# EAGLE library part VP101-5BA (library Amiga)
VIDEO_DAC for A1200 A4000(t)
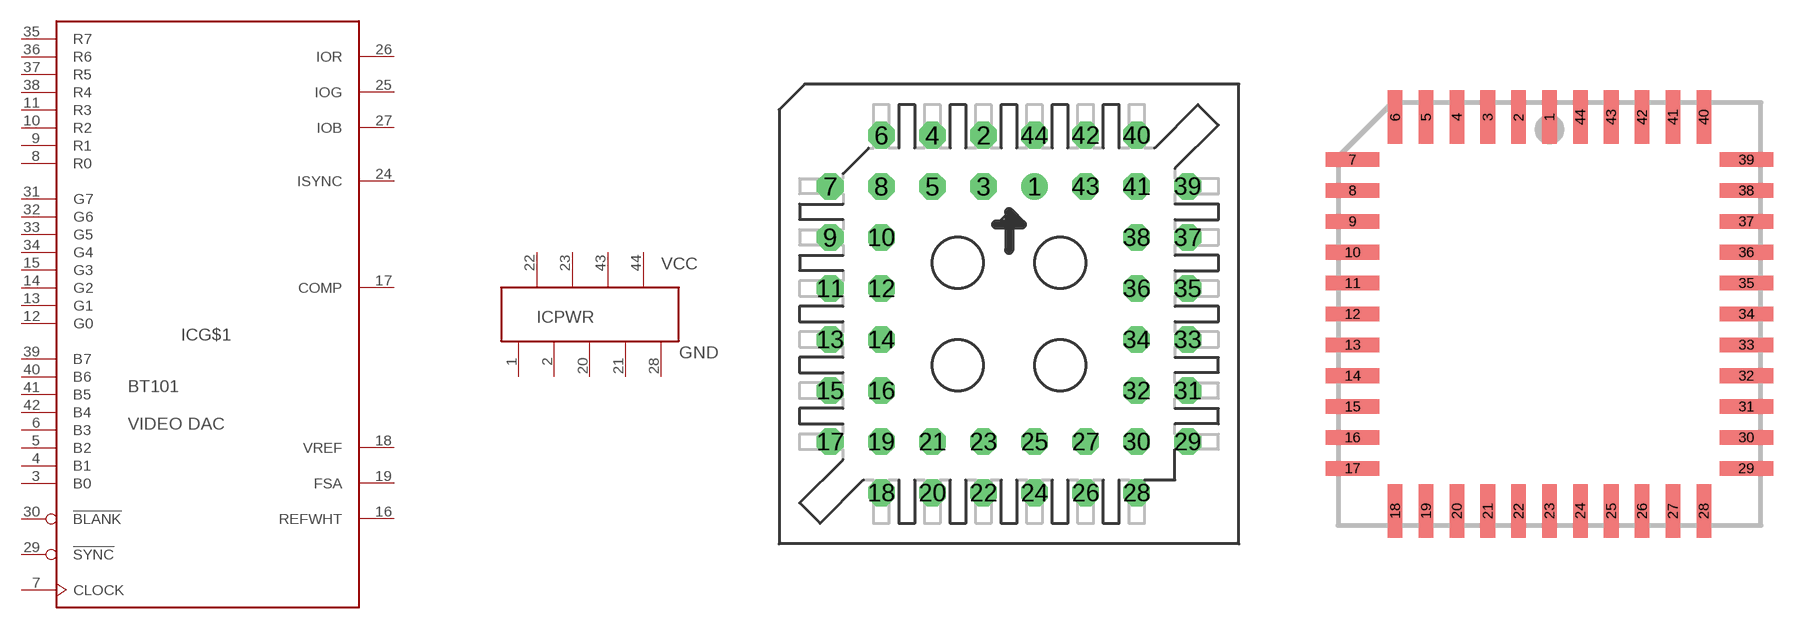
[diagram p24: symbol with the pads of PLCC44_T; footprints PLCC44_T, PLCC44_S]

Designator prefix IC; gates G$1=BT101 PWR=4VCC-5GND

## VP101-5BA-HP44  [PLCC44_T]
1  PWR:GND  pwr
2  PWR:GND  pwr
3  G$1:B0  in
4  G$1:B1  in
5  G$1:B2  in
6  G$1:B3  in
7  G$1:CLOCK  in
8  G$1:R0  in
9  G$1:R1  in
10  G$1:R2  in
11  G$1:R3  in
12  G$1:G0  in
13  G$1:G1  in
14  G$1:G2  in
15  G$1:G3  in
16  G$1:REFWHT  in
17  G$1:COMP  out
18  G$1:VREF  pwr
19  G$1:FSA  in
20  PWR:GND  pwr
21  PWR:GND  pwr
22  PWR:VCC  pwr
23  PWR:VCC  pwr
24  G$1:ISYNC  in
25  G$1:IOG  out
26  G$1:IOR  out
27  G$1:IOB  out
28  PWR:GND  pwr
29  G$1:!SYNC  in
30  G$1:!BLANK  in
31  G$1:G7  in
32  G$1:G6  in
33  G$1:G5  in
34  G$1:G4  in
35  G$1:R7  in
36  G$1:R6  in
37  G$1:R5  in
38  G$1:R4  in
39  G$1:B7  in
40  G$1:B6  in
41  G$1:B5  in
42  G$1:B4  in
43  PWR:VCC  pwr
44  PWR:VCC  pwr

## VP101-5BA  [PLCC44_S]
Pads as for PLCC44_T

## Footprint PLCC44_T (pad centres in mm)
drill 0.813: 1 1.27,6.35
drill 0.813 octagon: 2 -1.27,8.89; 3 -1.27,6.35; 4 -3.81,8.89; 5 -3.81,6.35; 6 -6.35,8.89; 7 -8.89,6.35; 8 -6.35,6.35; 9 -8.89,3.81; 10 -6.35,3.81; 11 -8.89,1.27; 12 -6.35,1.27; 13 -8.89,-1.27; 14 -6.35,-1.27; 15 -8.89,-3.81; 16 -6.35,-3.81; 17 -8.89,-6.35; 18 -6.35,-8.89; 19 -6.35,-6.35; 20 -3.81,-8.89; 21 -3.81,-6.35; 22 -1.27,-8.89; 23 -1.27,-6.35; 24 1.27,-8.89; 25 1.27,-6.35; 26 3.81,-8.89; 27 3.81,-6.35; 28 6.35,-8.89; 29 8.89,-6.35; 30 6.35,-6.35; 31 8.89,-3.81; 32 6.35,-3.81; 33 8.89,-1.27; 34 6.35,-1.27; 35 8.89,1.27; 36 6.35,1.27; 37 8.89,3.81; 38 6.35,3.81; 39 8.89,6.35; 40 6.35,8.89; 41 6.35,6.35; 42 3.81,8.89; 43 3.81,6.35; 44 1.27,8.89

## Footprint PLCC44_S (pad centres in mm)
PLASTIC LEADED CHIP CARRIER square
smd 0.6 x 2.2: 1 0,8.1; 2 -1.27,8.1; 3 -2.54,8.1; 4 -3.81,8.1; 5 -5.08,8.1; 6 -6.35,8.1; 18 -6.35,-8.1; 19 -5.08,-8.1; 20 -3.81,-8.1; 21 -2.54,-8.1; 22 -1.27,-8.1; 23 0,-8.1; 24 1.27,-8.1; 25 2.54,-8.1; 26 3.81,-8.1; 27 5.08,-8.1; 28 6.35,-8.1; 40 6.35,8.1; 41 5.08,8.1; 42 3.81,8.1; 43 2.54,8.1; 44 1.27,8.1
smd 2.2 x 0.6: 7 -8.1,6.35; 8 -8.1,5.08; 9 -8.1,3.81; 10 -8.1,2.54; 11 -8.1,1.27; 12 -8.1,0; 13 -8.1,-1.27; 14 -8.1,-2.54; 15 -8.1,-3.81; 16 -8.1,-5.08; 17 -8.1,-6.35; 29 8.1,-6.35; 30 8.1,-5.08; 31 8.1,-3.81; 32 8.1,-2.54; 33 8.1,-1.27; 34 8.1,0; 35 8.1,1.27; 36 8.1,2.54; 37 8.1,3.81; 38 8.1,5.08; 39 8.1,6.35